# EAGLE library part MP6550 (library mps-motor-drivers)
MP6550 1.8V to 22V, 2A, H-Bridge Motor Driver
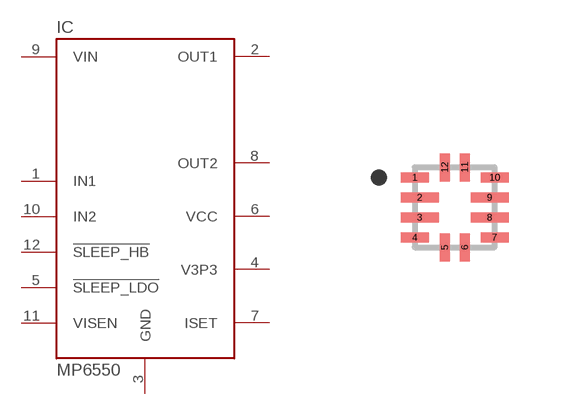
[diagram p0: symbol with the pads of QFN-12; footprint QFN-12]

Designator prefix IC

## MP6550  [QFN-12]
1  IN1
2  OUT1
3  GND
4  V3P3
5  !SLEEP_LDO!
6  VCC
7  ISET
8  OUT2
9  VIN
10  IN2
11  VISEN
12  !SLEEP_HB!

## Footprint QFN-12 (pad centres in mm)
QFN-12 2x2mm
smd 0.7 x 0.25: 1 -1,0.75; 4 -1,-0.75; 7 1,-0.75; 10 1,0.75
smd 0.95 x 0.25: 2 -0.875,0.25; 3 -0.875,-0.25; 8 0.875,-0.25; 9 0.875,0.25
smd 0.25 x 0.7: 5 -0.25,-1; 6 0.25,-1; 11 0.25,1; 12 -0.25,1